# Altium schematic symbol library kmilo17pet-LT_OpAmp_LT2000.SchLib: 1710 symbols (part 64 of 75)
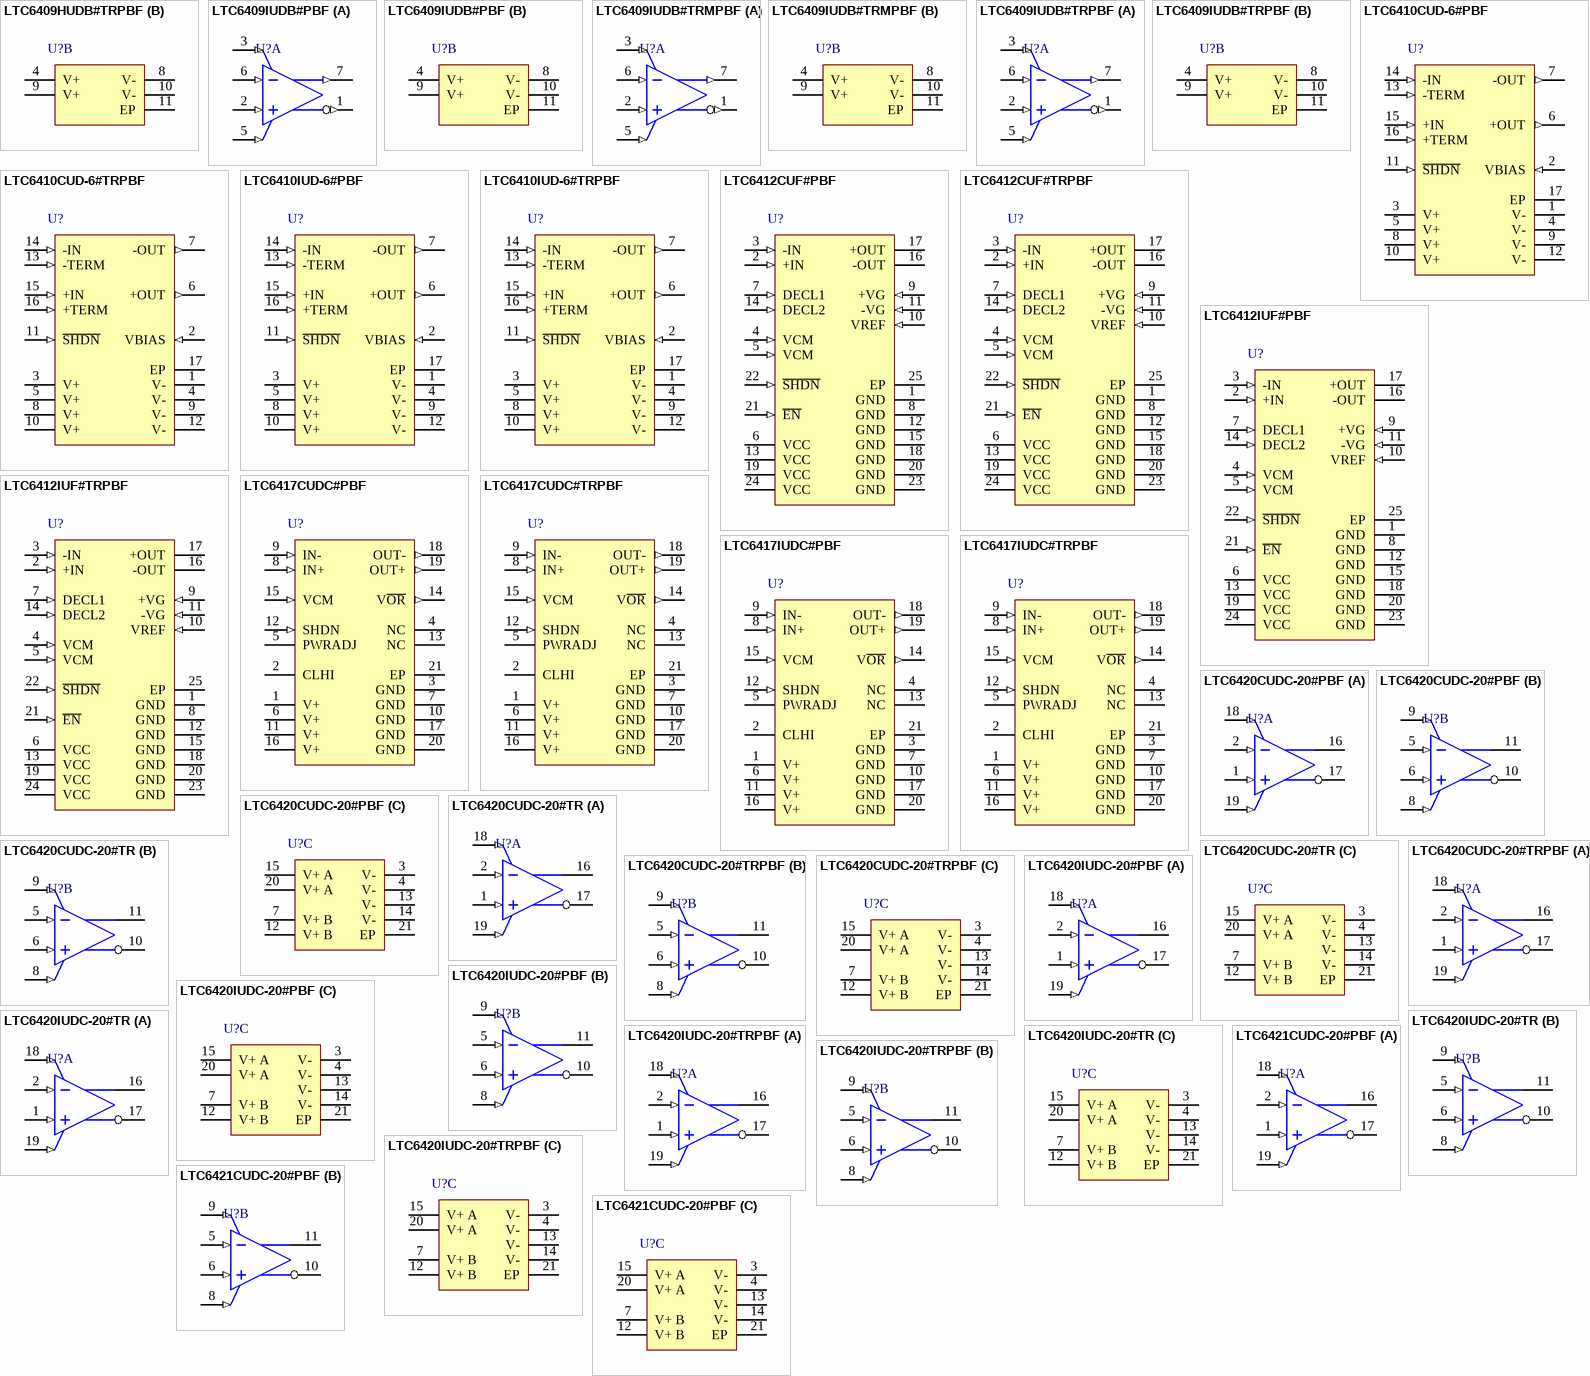
[diagram p143: symbols LTC6409HUDB#TRPBF to LTC6421CUDC-20#PBF]

## LTC6410IUD-6#TRPBF
designator U?
Single Channel, Low Distortion, Low Noise Differential IF Amplifier with Configurable Input Impedance, 1400 MHz Typical GBW, 1500 V/us Typical SR, 2.8 to 5.5 V, 16-Pin QFN (UD-16), Industrial, Pb-Free, Reel; Linear Technology Part Number: LTC6410-6; Manufacturer: Linear Technology; PartNumber: LTC6410IUD-6#TRPBF; Channels (#): 1; GBW (MHz) Typical: 1400; Is (mA) Typical: 104; SR (V/us) Typical: 1500; Vos (mV) Typical: 0.4; Vs Max (V): 5.5; Vs Min (V): 2.8; DatasheetVersion: Rev. A; PackageReference: LT-UD-16; PackageDescription: 16-Lead Plastic QFN, Body 3.00 x 3.00 mm, Pitch 0.5 mm; Supplier 1: Digi-Key; Supplier Part Number 1: LTC6410IUD-6#TRPBF-ND; Supplier 2: Newark; Supplier Part Number 2: 75M4578; Packing: Reel; RoHS: Pb-Free; Type: DIFF; Mounting Technology: Surface Mount; Code_JEDEC: MO-220; ComponentLink1Description: Manufacturer URL; ComponentLink1URL: http://www.linear.com/; ComponentLink2Description: Datasheet; ComponentLink2URL: http://cds.linear.com/docs/en/datasheet/64106fa.pdf; ComponentLink3Description: Package Specification; ComponentLink3URL: http://cds.linear.com/docs/en/packaging/QFN_16_05-08-1691.pdf
footprint LT-UD-16_N (QFN, 16-Leads, Body 3x3mm, Pitch 0.5mm, Thermal Pad 1.45x1.45mm, IPC Medium Density)
footprint LT-UD-16_L (QFN, 16-Leads, Body 3x3mm, Pitch 0.5mm, Thermal Pad 1.45x1.45mm, IPC High Density)
footprint LT-UD-16_M (QFN, 16-Leads, Body 3x3mm, Pitch 0.5mm, Thermal Pad 1.45x1.45mm, IPC Low Density)
pins: 1 V- (power) "Negative Power Supply (Normally Tied to Ground). All 5 pins must be tied to the same voltage. V- maybe tied to a voltage other than ground as long as the voltage between V+ and V- is 2.8V to 5.5V. If the V- pins are not tied (See Datasheet)", 2 VBIAS (in) "This pin sets the input and output common mode voltage by driving the +IN and -IN through a buffer with a high output resistance of 1k. If the part is AC-coupled at the input, the VBIAS will set the VINCM and therefore the (See Datasheet)", 3 V+ (power) "Positive Power Supply. All 4 pins must be tied to the same voltage. Split supplies are possible as long as the voltage between V+ and V- is 2.8V to 5.5V. Bypass capacitors of 680pF and 0.1uF as close to the part as possible (See Datasheet)", 4 V- (power) "Negative Power Supply (Normally Tied to Ground). All 5 pins must be tied to the same voltage. V- maybe tied to a voltage other than ground as long as the voltage between V+ and V- is 2.8V to 5.5V. If the V- pins are not tied (See Datasheet)", 5 V+ (power) "Positive Power Supply. All 4 pins must be tied to the same voltage. Split supplies are possible as long as the voltage between V+ and V- is 2.8V to 5.5V. Bypass capacitors of 680pF and 0.1uF as close to the part as possible (See Datasheet)", 6 +OUT (out) "Output. These pins each have internal series termination resistors forming a differential output resistance.", 7 -OUT (out) "Output. These pins each have internal series termination resistors forming a differential output resistance.", 8 V+ (power) "Positive Power Supply. All 4 pins must be tied to the same voltage. Split supplies are possible as long as the voltage between V+ and V- is 2.8V to 5.5V. Bypass capacitors of 680pF and 0.1uF as close to the part as possible (See Datasheet)", 9 V- (power) "Negative Power Supply (Normally Tied to Ground). All 5 pins must be tied to the same voltage. V- maybe tied to a voltage other than ground as long as the voltage between V+ and V- is 2.8V to 5.5V. If the V- pins are not tied (See Datasheet)", 10 V+ (power) "Positive Power Supply. All 4 pins must be tied to the same voltage. Split supplies are possible as long as the voltage between V+ and V- is 2.8V to 5.5V. Bypass capacitors of 680pF and 0.1uF as close to the part as possible (See Datasheet)", 11 ~{SHDN} (in) "This pin is internally pulled high by a typically 30k resistor to V+. By pulling this pin low the supply current will be reduced to typically 3mA. See DC Electrical Characteristics table for the specifi c logic levels.", 12 V- (power) "Negative Power Supply (Normally Tied to Ground). All 5 pins must be tied to the same voltage. V- maybe tied to a voltage other than ground as long as the voltage between V+ and V- is 2.8V to 5.5V. If the V- pins are not tied (See Datasheet)", 13 -TERM (in) "Negative Input Termination. When tied directly to -IN, it provides an active 50ohm differential termination when +TERM is also tied directly to +IN.", 14 -IN (in) "Negative Input. This pin is normally tied to -TERM, the input termination pin. If AC-coupled, this pin will self bias by VBIAS.", 15 +IN (in) "Positive Input. This pin is normally tied to +TERM, the input termination pin. If AC-coupled, this pin will self bias by VBIAS.", 16 +TERM (in) "Positive Input Termination. When tied directly to +IN, it provides an active 50ohm differential termination when -TERM is also tied directly to -IN.", 17 EP (power) "V-. The Exposed Pad must be soldered to the PCB metal."

## LTC6412CUF#PBF
designator U?
Single Channel, 31 dB Range Analog-Controlled VGA Operational Amplifier, 800 MHz Typical GBW, 3 to 3.6 V, 24-Pin QFN (UF24), Commercial, Pb-Free; Linear Technology Part Number: LTC6412; Manufacturer: Linear Technology; PartNumber: LTC6412CUF#PBF; Channels (#): 1; GBW (MHz) Typical: 800; Is (mA) Typical: 110; Vs Max (V): 3.6; Vs Min (V): 3; DatasheetVersion: Rev. A; PackageVersion: Rev B; PackageReference: LT-UF-24; PackageDescription: 24-Lead Plastic QFN, Body 4 x 4 mm, Pitch 0.5 mm; Supplier 1: Digi-Key; Supplier Part Number 1: LTC6412CUF#PBF-ND; Supplier 2: Farnell; Supplier Part Number 2: 2322429; Supplier 3: Newark; Supplier Part Number 3: 24R6630; RoHS: Pb-Free; Type: DIFF; Mounting Technology: Surface Mount; Code_JEDEC: MO-220; ComponentLink1Description: Manufacturer URL; ComponentLink1URL: http://www.linear.com/; ComponentLink2Description: Datasheet; ComponentLink2URL: http://cds.linear.com/docs/en/datasheet/6412fa.pdf; ComponentLink3Description: Package Specification; ComponentLink3URL: http://cds.linear.com/docs/en/packaging/%28UF24%29%20QFN%2005-08-1697%20Rev%20B.pdf
footprint LT-UF-24_N (QFN, 24-Leads, Body 4x4mm, Pitch 0.5mm, Thermal Pad 2.45x2.45mm, IPC Medium Density)
footprint LT-UF-24_L (QFN, 24-Leads, Body 4x4mm, Pitch 0.5mm, Thermal Pad 2.45x2.45mm, IPC High Density)
footprint LT-UF-24_M (QFN, 24-Leads, Body 4x4mm, Pitch 0.5mm, Thermal Pad 2.45x2.45mm, IPC Low Density)
pins: 1 GND (power) "Ground. Pin is connected to each other internally. For best RF performance, all ground pins should be connected to the printed circuit board ground plane.", 2 +IN (in) "Positive Signal Input Pin. Has an internally generated DC Bias. A 10nF DC blocking capacitor is recommended.", 3 -IN (in) "Negative Signal Input Pin. Has an internally generated DC Bias. A 10nF DC blocking capacitor is recommended.", 4 VCM (in) "Input Common Mode Voltage Pin. The pin is tied together internally and serve as a virtual ground for the differential inputs, +IN and -IN. Capacitive decoupling to ground with 10nF close to the pins is recommended to help (See Datasheet)", 5 VCM (in) "Input Common Mode Voltage Pin. The pin is tied together internally and serve as a virtual ground for the differential inputs, +IN and -IN. Capacitive decoupling to ground with 10nF close to the pins is recommended to help (See Datasheet)", 6 VCC (power) "Positive Power Supply. All four pins must be tied to the same voltage, usually 3.3V. Bypass each pin with 1000pF and 0.1uF capacitors close to the pins.", 7 DECL1 (in) "Decoupling Pin. Serves to reduce internal noise. Bypass to ground with a 0.1uF capacitor close to the pin.", 8 GND (power) "Ground. Pin is connected to each other internally. For best RF performance, all ground pins should be connected to the printed circuit board ground plane.", 9 +VG (in) "Positive Gain Control Pin. Input signal pin used for positive mode gain control. Otherwise, pin is typically connected to VREF for negative mode gain control. Pin is internally pulled to ground with a 10k resistor. In (See Datasheet)", 10 VREF (in) "Internal Bias Voltage Pin. Typically tied to -VG pin for positive gain control or tied to +VG for negative gain control. Determines the midpoint voltage of the gain-vs-VG characteristic. Bypass to ground with 0.1uF capacitor (See Datasheet)", 11 -VG (in) "Negative Gain Control Pin. Input signal pin used for negative mode gain control. Otherwise, pin is typically connected to VREF for positive mode gain control. Pin is internally pulled to ground with a 10k resistor. In (See Datasheet)", 12 GND (power) "Ground. Pin is connected to each other internally. For best RF performance, all ground pins should be connected to the printed circuit board ground plane.", 13 VCC (power) "Positive Power Supply. All four pins must be tied to the same voltage, usually 3.3V. Bypass each pin with 1000pF and 0.1uF capacitors close to the pins.", 14 DECL2 (in) "Decoupling Pin. Serves to reduce internal noise. Bypass to ground with a 1000pF capacitor close to the pin.", 15 GND (power) "Ground. Pin is connected to each other internally. For best RF performance, all ground pins should be connected to the printed circuit board ground plane.", 16 -OUT (hiz) "Negative Amplifi er Output Pin. A transformer with a center tap tied to VCC or a choke inductor is recommended to conduct DC quiescent current to the open-collector output device. For best performance, DC bias voltage to (See Datasheet)", 17 +OUT (hiz) "Positive Amplifi er Output Pin. A transformer with a center tap tied to VCC or a choke inductor is recommended to conduct DC quiescent current to the open-collector output device. For best performance, DC bias voltage to (See Datasheet)", 18 GND (power) "Ground. Pin is connected to each other internally. For best RF performance, all ground pins should be connected to the printed circuit board ground plane.", 19 VCC (power) "Positive Power Supply. All four pins must be tied to the same voltage, usually 3.3V. Bypass each pin with 1000pF and 0.1uF capacitors close to the pins.", 20 GND (power) "Ground. Pin is connected to each other internally. For best RF performance, all ground pins should be connected to the printed circuit board ground plane.", 21 ~{EN} (in) "Output Signal Enable Pin. Pin is internally pulled high with 100k ohm to VCC. Assert pin to a low voltage to enable the output amplifi er signal. Output amplifi er impedance and DC current are not affected by the E\N\ state. (See Datasheet)", 22 ~{SHDN} (in) "Shutdown Pin. Pin is internally pulled high with 100k ohm to VCC. Assert pin to a low voltage to shut down the circuit and greatly reduce the supply current. Proper sequencing of the E\N\ and S\H\D\N\ pins is required to (See Datasheet)", 23 GND (power) "Ground. Pin is connected to each other internally. For best RF performance, all ground pins should be connected to the printed circuit board ground plane.", 24 VCC (power) "Positive Power Supply. All four pins must be tied to the same voltage, usually 3.3V. Bypass each pin with 1000pF and 0.1uF capacitors close to the pins.", 25 EP (power) "Ground. The Exposed Pad should have multiple via holes to an underlying ground plane for low inductance and good thermal dissipation."

## LTC6412CUF#TRPBF
designator U?
Single Channel, 31 dB Range Analog-Controlled VGA Operational Amplifier, 800 MHz Typical GBW, 3 to 3.6 V, 24-Pin QFN (UF24), Commercial, Pb-Free, Reel; Linear Technology Part Number: LTC6412; Manufacturer: Linear Technology; PartNumber: LTC6412CUF#TRPBF; Channels (#): 1; GBW (MHz) Typical: 800; Is (mA) Typical: 110; Vs Max (V): 3.6; Vs Min (V): 3; DatasheetVersion: Rev. A; PackageVersion: Rev B; PackageReference: LT-UF-24; PackageDescription: 24-Lead Plastic QFN, Body 4 x 4 mm, Pitch 0.5 mm; Supplier 1: Digi-Key; Supplier Part Number 1: LTC6412CUF#TRPBF-ND; Supplier 2: Newark; Supplier Part Number 2: 24R6631; Packing: Reel; RoHS: Pb-Free; Type: DIFF; Mounting Technology: Surface Mount; Code_JEDEC: MO-220; ComponentLink1Description: Manufacturer URL; ComponentLink1URL: http://www.linear.com/; ComponentLink2Description: Datasheet; ComponentLink2URL: http://cds.linear.com/docs/en/datasheet/6412fa.pdf; ComponentLink3Description: Package Specification; ComponentLink3URL: http://cds.linear.com/docs/en/packaging/%28UF24%29%20QFN%2005-08-1697%20Rev%20B.pdf
footprint LT-UF-24_N (QFN, 24-Leads, Body 4x4mm, Pitch 0.5mm, Thermal Pad 2.45x2.45mm, IPC Medium Density)
footprint LT-UF-24_L (QFN, 24-Leads, Body 4x4mm, Pitch 0.5mm, Thermal Pad 2.45x2.45mm, IPC High Density)
footprint LT-UF-24_M (QFN, 24-Leads, Body 4x4mm, Pitch 0.5mm, Thermal Pad 2.45x2.45mm, IPC Low Density)
pins: 1 GND (power) "Ground. Pin is connected to each other internally. For best RF performance, all ground pins should be connected to the printed circuit board ground plane.", 2 +IN (in) "Positive Signal Input Pin. Has an internally generated DC Bias. A 10nF DC blocking capacitor is recommended.", 3 -IN (in) "Negative Signal Input Pin. Has an internally generated DC Bias. A 10nF DC blocking capacitor is recommended.", 4 VCM (in) "Input Common Mode Voltage Pin. The pin is tied together internally and serve as a virtual ground for the differential inputs, +IN and -IN. Capacitive decoupling to ground with 10nF close to the pins is recommended to help (See Datasheet)", 5 VCM (in) "Input Common Mode Voltage Pin. The pin is tied together internally and serve as a virtual ground for the differential inputs, +IN and -IN. Capacitive decoupling to ground with 10nF close to the pins is recommended to help (See Datasheet)", 6 VCC (power) "Positive Power Supply. All four pins must be tied to the same voltage, usually 3.3V. Bypass each pin with 1000pF and 0.1uF capacitors close to the pins.", 7 DECL1 (in) "Decoupling Pin. Serves to reduce internal noise. Bypass to ground with a 0.1uF capacitor close to the pin.", 8 GND (power) "Ground. Pin is connected to each other internally. For best RF performance, all ground pins should be connected to the printed circuit board ground plane.", 9 +VG (in) "Positive Gain Control Pin. Input signal pin used for positive mode gain control. Otherwise, pin is typically connected to VREF for negative mode gain control. Pin is internally pulled to ground with a 10k resistor. In (See Datasheet)", 10 VREF (in) "Internal Bias Voltage Pin. Typically tied to -VG pin for positive gain control or tied to +VG for negative gain control. Determines the midpoint voltage of the gain-vs-VG characteristic. Bypass to ground with 0.1uF capacitor (See Datasheet)", 11 -VG (in) "Negative Gain Control Pin. Input signal pin used for negative mode gain control. Otherwise, pin is typically connected to VREF for positive mode gain control. Pin is internally pulled to ground with a 10k resistor. In (See Datasheet)", 12 GND (power) "Ground. Pin is connected to each other internally. For best RF performance, all ground pins should be connected to the printed circuit board ground plane.", 13 VCC (power) "Positive Power Supply. All four pins must be tied to the same voltage, usually 3.3V. Bypass each pin with 1000pF and 0.1uF capacitors close to the pins.", 14 DECL2 (in) "Decoupling Pin. Serves to reduce internal noise. Bypass to ground with a 1000pF capacitor close to the pin.", 15 GND (power) "Ground. Pin is connected to each other internally. For best RF performance, all ground pins should be connected to the printed circuit board ground plane.", 16 -OUT (hiz) "Negative Amplifi er Output Pin. A transformer with a center tap tied to VCC or a choke inductor is recommended to conduct DC quiescent current to the open-collector output device. For best performance, DC bias voltage to (See Datasheet)", 17 +OUT (hiz) "Positive Amplifi er Output Pin. A transformer with a center tap tied to VCC or a choke inductor is recommended to conduct DC quiescent current to the open-collector output device. For best performance, DC bias voltage to (See Datasheet)", 18 GND (power) "Ground. Pin is connected to each other internally. For best RF performance, all ground pins should be connected to the printed circuit board ground plane.", 19 VCC (power) "Positive Power Supply. All four pins must be tied to the same voltage, usually 3.3V. Bypass each pin with 1000pF and 0.1uF capacitors close to the pins.", 20 GND (power) "Ground. Pin is connected to each other internally. For best RF performance, all ground pins should be connected to the printed circuit board ground plane.", 21 ~{EN} (in) "Output Signal Enable Pin. Pin is internally pulled high with 100k ohm to VCC. Assert pin to a low voltage to enable the output amplifi er signal. Output amplifi er impedance and DC current are not affected by the E\N\ state. (See Datasheet)", 22 ~{SHDN} (in) "Shutdown Pin. Pin is internally pulled high with 100k ohm to VCC. Assert pin to a low voltage to shut down the circuit and greatly reduce the supply current. Proper sequencing of the E\N\ and S\H\D\N\ pins is required to (See Datasheet)", 23 GND (power) "Ground. Pin is connected to each other internally. For best RF performance, all ground pins should be connected to the printed circuit board ground plane.", 24 VCC (power) "Positive Power Supply. All four pins must be tied to the same voltage, usually 3.3V. Bypass each pin with 1000pF and 0.1uF capacitors close to the pins.", 25 EP (power) "Ground. The Exposed Pad should have multiple via holes to an underlying ground plane for low inductance and good thermal dissipation."

## LTC6412IUF#PBF
designator U?
Single Channel, 31 dB Range Analog-Controlled VGA Operational Amplifier, 800 MHz Typical GBW, 3 to 3.6 V, 24-Pin QFN (UF24), Industrial, Pb-Free; Linear Technology Part Number: LTC6412; Manufacturer: Linear Technology; PartNumber: LTC6412IUF#PBF; Channels (#): 1; GBW (MHz) Typical: 800; Is (mA) Typical: 110; Vs Max (V): 3.6; Vs Min (V): 3; DatasheetVersion: Rev. A; PackageVersion: Rev B; PackageReference: LT-UF-24; PackageDescription: 24-Lead Plastic QFN, Body 4 x 4 mm, Pitch 0.5 mm; Supplier 1: Digi-Key; Supplier Part Number 1: LTC6412IUF#PBF-ND; Supplier 2: Farnell; Supplier Part Number 2: 2322430; Supplier 3: Newark; Supplier Part Number 3: 24R6632; RoHS: Pb-Free; Type: DIFF; Mounting Technology: Surface Mount; Code_JEDEC: MO-220; ComponentLink1Description: Manufacturer URL; ComponentLink1URL: http://www.linear.com/; ComponentLink2Description: Datasheet; ComponentLink2URL: http://cds.linear.com/docs/en/datasheet/6412fa.pdf; ComponentLink3Description: Package Specification; ComponentLink3URL: http://cds.linear.com/docs/en/packaging/%28UF24%29%20QFN%2005-08-1697%20Rev%20B.pdf
footprint LT-UF-24_N (QFN, 24-Leads, Body 4x4mm, Pitch 0.5mm, Thermal Pad 2.45x2.45mm, IPC Medium Density)
footprint LT-UF-24_L (QFN, 24-Leads, Body 4x4mm, Pitch 0.5mm, Thermal Pad 2.45x2.45mm, IPC High Density)
footprint LT-UF-24_M (QFN, 24-Leads, Body 4x4mm, Pitch 0.5mm, Thermal Pad 2.45x2.45mm, IPC Low Density)
pins: 1 GND (power) "Ground. Pin is connected to each other internally. For best RF performance, all ground pins should be connected to the printed circuit board ground plane.", 2 +IN (in) "Positive Signal Input Pin. Has an internally generated DC Bias. A 10nF DC blocking capacitor is recommended.", 3 -IN (in) "Negative Signal Input Pin. Has an internally generated DC Bias. A 10nF DC blocking capacitor is recommended.", 4 VCM (in) "Input Common Mode Voltage Pin. The pin is tied together internally and serve as a virtual ground for the differential inputs, +IN and -IN. Capacitive decoupling to ground with 10nF close to the pins is recommended to help (See Datasheet)", 5 VCM (in) "Input Common Mode Voltage Pin. The pin is tied together internally and serve as a virtual ground for the differential inputs, +IN and -IN. Capacitive decoupling to ground with 10nF close to the pins is recommended to help (See Datasheet)", 6 VCC (power) "Positive Power Supply. All four pins must be tied to the same voltage, usually 3.3V. Bypass each pin with 1000pF and 0.1uF capacitors close to the pins.", 7 DECL1 (in) "Decoupling Pin. Serves to reduce internal noise. Bypass to ground with a 0.1uF capacitor close to the pin.", 8 GND (power) "Ground. Pin is connected to each other internally. For best RF performance, all ground pins should be connected to the printed circuit board ground plane.", 9 +VG (in) "Positive Gain Control Pin. Input signal pin used for positive mode gain control. Otherwise, pin is typically connected to VREF for negative mode gain control. Pin is internally pulled to ground with a 10k resistor. In (See Datasheet)", 10 VREF (in) "Internal Bias Voltage Pin. Typically tied to -VG pin for positive gain control or tied to +VG for negative gain control. Determines the midpoint voltage of the gain-vs-VG characteristic. Bypass to ground with 0.1uF capacitor (See Datasheet)", 11 -VG (in) "Negative Gain Control Pin. Input signal pin used for negative mode gain control. Otherwise, pin is typically connected to VREF for positive mode gain control. Pin is internally pulled to ground with a 10k resistor. In (See Datasheet)", 12 GND (power) "Ground. Pin is connected to each other internally. For best RF performance, all ground pins should be connected to the printed circuit board ground plane.", 13 VCC (power) "Positive Power Supply. All four pins must be tied to the same voltage, usually 3.3V. Bypass each pin with 1000pF and 0.1uF capacitors close to the pins.", 14 DECL2 (in) "Decoupling Pin. Serves to reduce internal noise. Bypass to ground with a 1000pF capacitor close to the pin.", 15 GND (power) "Ground. Pin is connected to each other internally. For best RF performance, all ground pins should be connected to the printed circuit board ground plane.", 16 -OUT (hiz) "Negative Amplifi er Output Pin. A transformer with a center tap tied to VCC or a choke inductor is recommended to conduct DC quiescent current to the open-collector output device. For best performance, DC bias voltage to (See Datasheet)", 17 +OUT (hiz) "Positive Amplifi er Output Pin. A transformer with a center tap tied to VCC or a choke inductor is recommended to conduct DC quiescent current to the open-collector output device. For best performance, DC bias voltage to (See Datasheet)", 18 GND (power) "Ground. Pin is connected to each other internally. For best RF performance, all ground pins should be connected to the printed circuit board ground plane.", 19 VCC (power) "Positive Power Supply. All four pins must be tied to the same voltage, usually 3.3V. Bypass each pin with 1000pF and 0.1uF capacitors close to the pins.", 20 GND (power) "Ground. Pin is connected to each other internally. For best RF performance, all ground pins should be connected to the printed circuit board ground plane.", 21 ~{EN} (in) "Output Signal Enable Pin. Pin is internally pulled high with 100k ohm to VCC. Assert pin to a low voltage to enable the output amplifi er signal. Output amplifi er impedance and DC current are not affected by the E\N\ state. (See Datasheet)", 22 ~{SHDN} (in) "Shutdown Pin. Pin is internally pulled high with 100k ohm to VCC. Assert pin to a low voltage to shut down the circuit and greatly reduce the supply current. Proper sequencing of the E\N\ and S\H\D\N\ pins is required to (See Datasheet)", 23 GND (power) "Ground. Pin is connected to each other internally. For best RF performance, all ground pins should be connected to the printed circuit board ground plane.", 24 VCC (power) "Positive Power Supply. All four pins must be tied to the same voltage, usually 3.3V. Bypass each pin with 1000pF and 0.1uF capacitors close to the pins.", 25 EP (power) "Ground. The Exposed Pad should have multiple via holes to an underlying ground plane for low inductance and good thermal dissipation."

## LTC6412IUF#TRPBF
designator U?
Single Channel, 31 dB Range Analog-Controlled VGA Operational Amplifier, 800 MHz Typical GBW, 3 to 3.6 V, 24-Pin QFN (UF24), Industrial, Pb-Free, Reel; Linear Technology Part Number: LTC6412; Manufacturer: Linear Technology; PartNumber: LTC6412IUF#TRPBF; Channels (#): 1; GBW (MHz) Typical: 800; Is (mA) Typical: 110; Vs Max (V): 3.6; Vs Min (V): 3; DatasheetVersion: Rev. A; PackageVersion: Rev B; PackageReference: LT-UF-24; PackageDescription: 24-Lead Plastic QFN, Body 4 x 4 mm, Pitch 0.5 mm; Supplier 1: Digi-Key; Supplier Part Number 1: LTC6412IUF#TRPBF-ND; Packing: Reel; RoHS: Pb-Free; Type: DIFF; Mounting Technology: Surface Mount; Code_JEDEC: MO-220; ComponentLink1Description: Manufacturer URL; ComponentLink1URL: http://www.linear.com/; ComponentLink2Description: Datasheet; ComponentLink2URL: http://cds.linear.com/docs/en/datasheet/6412fa.pdf; ComponentLink3Description: Package Specification; ComponentLink3URL: http://cds.linear.com/docs/en/packaging/%28UF24%29%20QFN%2005-08-1697%20Rev%20B.pdf
footprint LT-UF-24_N (QFN, 24-Leads, Body 4x4mm, Pitch 0.5mm, Thermal Pad 2.45x2.45mm, IPC Medium Density)
footprint LT-UF-24_L (QFN, 24-Leads, Body 4x4mm, Pitch 0.5mm, Thermal Pad 2.45x2.45mm, IPC High Density)
footprint LT-UF-24_M (QFN, 24-Leads, Body 4x4mm, Pitch 0.5mm, Thermal Pad 2.45x2.45mm, IPC Low Density)
pins: 1 GND (power) "Ground. Pin is connected to each other internally. For best RF performance, all ground pins should be connected to the printed circuit board ground plane.", 2 +IN (in) "Positive Signal Input Pin. Has an internally generated DC Bias. A 10nF DC blocking capacitor is recommended.", 3 -IN (in) "Negative Signal Input Pin. Has an internally generated DC Bias. A 10nF DC blocking capacitor is recommended.", 4 VCM (in) "Input Common Mode Voltage Pin. The pin is tied together internally and serve as a virtual ground for the differential inputs, +IN and -IN. Capacitive decoupling to ground with 10nF close to the pins is recommended to help (See Datasheet)", 5 VCM (in) "Input Common Mode Voltage Pin. The pin is tied together internally and serve as a virtual ground for the differential inputs, +IN and -IN. Capacitive decoupling to ground with 10nF close to the pins is recommended to help (See Datasheet)", 6 VCC (power) "Positive Power Supply. All four pins must be tied to the same voltage, usually 3.3V. Bypass each pin with 1000pF and 0.1uF capacitors close to the pins.", 7 DECL1 (in) "Decoupling Pin. Serves to reduce internal noise. Bypass to ground with a 0.1uF capacitor close to the pin.", 8 GND (power) "Ground. Pin is connected to each other internally. For best RF performance, all ground pins should be connected to the printed circuit board ground plane.", 9 +VG (in) "Positive Gain Control Pin. Input signal pin used for positive mode gain control. Otherwise, pin is typically connected to VREF for negative mode gain control. Pin is internally pulled to ground with a 10k resistor. In (See Datasheet)", 10 VREF (in) "Internal Bias Voltage Pin. Typically tied to -VG pin for positive gain control or tied to +VG for negative gain control. Determines the midpoint voltage of the gain-vs-VG characteristic. Bypass to ground with 0.1uF capacitor (See Datasheet)", 11 -VG (in) "Negative Gain Control Pin. Input signal pin used for negative mode gain control. Otherwise, pin is typically connected to VREF for positive mode gain control. Pin is internally pulled to ground with a 10k resistor. In (See Datasheet)", 12 GND (power) "Ground. Pin is connected to each other internally. For best RF performance, all ground pins should be connected to the printed circuit board ground plane.", 13 VCC (power) "Positive Power Supply. All four pins must be tied to the same voltage, usually 3.3V. Bypass each pin with 1000pF and 0.1uF capacitors close to the pins.", 14 DECL2 (in) "Decoupling Pin. Serves to reduce internal noise. Bypass to ground with a 1000pF capacitor close to the pin.", 15 GND (power) "Ground. Pin is connected to each other internally. For best RF performance, all ground pins should be connected to the printed circuit board ground plane.", 16 -OUT (hiz) "Negative Amplifi er Output Pin. A transformer with a center tap tied to VCC or a choke inductor is recommended to conduct DC quiescent current to the open-collector output device. For best performance, DC bias voltage to (See Datasheet)", 17 +OUT (hiz) "Positive Amplifi er Output Pin. A transformer with a center tap tied to VCC or a choke inductor is recommended to conduct DC quiescent current to the open-collector output device. For best performance, DC bias voltage to (See Datasheet)", 18 GND (power) "Ground. Pin is connected to each other internally. For best RF performance, all ground pins should be connected to the printed circuit board ground plane.", 19 VCC (power) "Positive Power Supply. All four pins must be tied to the same voltage, usually 3.3V. Bypass each pin with 1000pF and 0.1uF capacitors close to the pins.", 20 GND (power) "Ground. Pin is connected to each other internally. For best RF performance, all ground pins should be connected to the printed circuit board ground plane.", 21 ~{EN} (in) "Output Signal Enable Pin. Pin is internally pulled high with 100k ohm to VCC. Assert pin to a low voltage to enable the output amplifi er signal. Output amplifi er impedance and DC current are not affected by the E\N\ state. (See Datasheet)", 22 ~{SHDN} (in) "Shutdown Pin. Pin is internally pulled high with 100k ohm to VCC. Assert pin to a low voltage to shut down the circuit and greatly reduce the supply current. Proper sequencing of the E\N\ and S\H\D\N\ pins is required to (See Datasheet)", 23 GND (power) "Ground. Pin is connected to each other internally. For best RF performance, all ground pins should be connected to the printed circuit board ground plane.", 24 VCC (power) "Positive Power Supply. All four pins must be tied to the same voltage, usually 3.3V. Bypass each pin with 1000pF and 0.1uF capacitors close to the pins.", 25 EP (power) "Ground. The Exposed Pad should have multiple via holes to an underlying ground plane for low inductance and good thermal dissipation."

## LTC6417CUDC#PBF
designator U?
Single Channel, Low Noise, High Linearity Differential Buffer / 16-Bit ADC Driver with Fast Clamp, 1600 MHz Typical GBW, 10000 V/us Typical SR, 4.75 to 5.25 V, 20-Pin QFN (UDC20), Commercial, Pb-Free; Linear Technology Part Number: LTC6417; Manufacturer: Linear Technology; PartNumber: LTC6417CUDC#PBF; Channels (#): 1; GBW (MHz) Typical: 1600; Is (mA) Typical: 123; SR (V/us) Typical: 10000; Vos (mV) Typical: 0.1; Vs Max (V): 5.25; Vs Min (V): 4.75; PackageVersion: Rev Ø; PackageReference: LT-UDC-20; PackageDescription: 20-Lead Plastic QFN, Body 3 x 4 mm, Pitch 0.5 mm; Supplier 1: Digi-Key; Supplier Part Number 1: LTC6417CUDC#PBF-ND; Supplier 2: Farnell; Supplier Part Number 2: 2322431; Supplier 3: Newark; Supplier Part Number 3: 27W9503; RoHS: Pb-Free; Type: DIFF; Mounting Technology: Surface Mount; ComponentLink1Description: Manufacturer URL; ComponentLink1URL: http://www.linear.com/; ComponentLink2Description: Datasheet; ComponentLink2URL: http://cds.linear.com/docs/en/datasheet/6417f.pdf; ComponentLink3Description: Package Specification; ComponentLink3URL: http://cds.linear.com/docs/en/packaging/QFN_20_05-08-1742.pdf
footprint LT-UDC-20_N (QFN, 20-Leads, Body 4x3mm, Pitch 0.5mm, Thermal Pad 2.5x1.5mm, IPC Medium Density)
footprint LT-UDC-20_L (QFN, 20-Leads, Body 4x3mm, Pitch 0.5mm, Thermal Pad 2.5x1.5mm, IPC High Density)
footprint LT-UDC-20_M (QFN, 20-Leads, Body 4x3mm, Pitch 0.5mm, Thermal Pad 2.5x1.5mm, IPC Low Density)
pins: 1 V+ (power) "Positive Power Supply. Typically 5V.Split supplies are possible as long as the voltage between V+ and GND is 4.75V to 5.25V. Bypass capacitors of 680Pf and 0.1uF as close to the part as possible should be used between the (See Datasheet)", 2 CLHI (power) "High Side Clamp Voltage. The voltage applied to the CLHI pin defines the upper voltage limit of the OUT+ and OUT- pins. This voltage should be set at least 300mV above the upper voltage range of the ADC. On a 5V supply, the (See Datasheet)", 3 GND (power) "Negative Power Supply. Normally tied to ground. All pins and the exposed pad must be tied to the same voltage. GND may be tied to a voltage other than ground as long as the voltage between V+ and GND is 4.75V to 5.25V. If (See Datasheet)", 4 NC "No Connection. These pins are not connected internally.", 5 PWRADJ (power) "Power Adjust Voltage. The voltage applied to this pin scales the bias current internal to the LTC6417. The PWRADJ pin will float to a 1.6V default voltage. PWRADJ has a Thevenin equivalent resistance of approximately 14.5k (See Datasheet)", 6 V+ (power) "Positive Power Supply. Typically 5V.Split supplies are possible as long as the voltage between V+ and GND is 4.75V to 5.25V. Bypass capacitors of 680Pf and 0.1uF as close to the part as possible should be used between the (See Datasheet)", 7 GND (power) "Negative Power Supply. Normally tied to ground. All pins and the exposed pad must be tied to the same voltage. GND may be tied to a voltage other than ground as long as the voltage between V+ and GND is 4.75V to 5.25V. If (See Datasheet)", 8 IN+ (in) "Non-inverting and inverting input pins of the buffer, respectively. These pins are high impedance, approximately 9.5k. If AC-coupled, these pins will self bias to the voltage applied to the VCM pin.", 9 IN- (in) "Non-inverting and inverting input pins of the buffer, respectively. These pins are high impedance, approximately 9.5k. If AC-coupled, these pins will self bias to the voltage applied to the VCM pin.", 10 GND (power) "Negative Power Supply. Normally tied to ground. All pins and the exposed pad must be tied to the same voltage. GND may be tied to a voltage other than ground as long as the voltage between V+ and GND is 4.75V to 5.25V. If (See Datasheet)", 11 V+ (power) "Positive Power Supply. Typically 5V.Split supplies are possible as long as the voltage between V+ and GND is 4.75V to 5.25V. Bypass capacitors of 680Pf and 0.1uF as close to the part as possible should be used between the (See Datasheet)", 12 SHDN (in) "This pin puts the LTC6417 in sleep mode when pulled high. If no voltage is applied to the SHDN pin, it floats down to the same potential as GND.", 13 NC "No Connection. These pins are not connected internally.", 14 V~{OR} (out) "Overrange Output. This pin, by default at 3.4V, will be pulled down to GND, when one or both input signals go beyond the minimum or maximum swing set by the CLHI and VCM pins.", 15 VCM (in) "This pin sets the output common mode voltage seen at OUT+ and OUT- by driving IN+ and IN- through a buffer with a high output resistance of 9.5k. The VCM pin has a Thevenin equivalent resistance of approximately 2.7k and can (See Datasheet)", 16 V+ (power) "Positive Power Supply. Typically 5V.Split supplies are possible as long as the voltage between V+ and GND is 4.75V to 5.25V. Bypass capacitors of 680Pf and 0.1uF as close to the part as possible should be used between the (See Datasheet)", 17 GND (power) "Negative Power Supply. Normally tied to ground. All pins and the exposed pad must be tied to the same voltage. GND may be tied to a voltage other than ground as long as the voltage between V+ and GND is 4.75V to 5.25V. If (See Datasheet)", 18 OUT- (out) "Outputs.", 19 OUT+ (out) "Outputs.", 20 GND (power) "Negative Power Supply. Normally tied to ground. All pins and the exposed pad must be tied to the same voltage. GND may be tied to a voltage other than ground as long as the voltage between V+ and GND is 4.75V to 5.25V. If (See Datasheet)", 21 EP (power) "Negative Power Supply. Normally tied to ground. All pins and the exposed pad must be tied to the same voltage. GND may be tied to a voltage other than ground as long as the voltage between V+ and GND is 4.75V to 5.25V. If (See Datasheet)"

## LTC6417CUDC#TRPBF
designator U?
Single Channel, Low Noise, High Linearity Differential Buffer / 16-Bit ADC Driver with Fast Clamp, 1600 MHz Typical GBW, 10000 V/us Typical SR, 4.75 to 5.25 V, 20-Pin QFN (UDC20), Commercial, Pb-Free, Reel; Linear Technology Part Number: LTC6417; Manufacturer: Linear Technology; PartNumber: LTC6417CUDC#TRPBF; Channels (#): 1; GBW (MHz) Typical: 1600; Is (mA) Typical: 123; SR (V/us) Typical: 10000; Vos (mV) Typical: 0.1; Vs Max (V): 5.25; Vs Min (V): 4.75; PackageVersion: Rev Ø; PackageReference: LT-UDC-20; PackageDescription: 20-Lead Plastic QFN, Body 3 x 4 mm, Pitch 0.5 mm; Supplier 1: Digi-Key; Supplier Part Number 1: LTC6417CUDC#TRPBF-ND; Supplier 2: Newark; Supplier Part Number 2: 27W9504; Packing: Reel; RoHS: Pb-Free; Type: DIFF; Mounting Technology: Surface Mount; ComponentLink1Description: Manufacturer URL; ComponentLink1URL: http://www.linear.com/; ComponentLink2Description: Datasheet; ComponentLink2URL: http://cds.linear.com/docs/en/datasheet/6417f.pdf; ComponentLink3Description: Package Specification; ComponentLink3URL: http://cds.linear.com/docs/en/packaging/QFN_20_05-08-1742.pdf
footprint LT-UDC-20_N (QFN, 20-Leads, Body 4x3mm, Pitch 0.5mm, Thermal Pad 2.5x1.5mm, IPC Medium Density)
footprint LT-UDC-20_L (QFN, 20-Leads, Body 4x3mm, Pitch 0.5mm, Thermal Pad 2.5x1.5mm, IPC High Density)
footprint LT-UDC-20_M (QFN, 20-Leads, Body 4x3mm, Pitch 0.5mm, Thermal Pad 2.5x1.5mm, IPC Low Density)
pins: 1 V+ (power) "Positive Power Supply. Typically 5V.Split supplies are possible as long as the voltage between V+ and GND is 4.75V to 5.25V. Bypass capacitors of 680Pf and 0.1uF as close to the part as possible should be used between the (See Datasheet)", 2 CLHI (power) "High Side Clamp Voltage. The voltage applied to the CLHI pin defines the upper voltage limit of the OUT+ and OUT- pins. This voltage should be set at least 300mV above the upper voltage range of the ADC. On a 5V supply, the (See Datasheet)", 3 GND (power) "Negative Power Supply. Normally tied to ground. All pins and the exposed pad must be tied to the same voltage. GND may be tied to a voltage other than ground as long as the voltage between V+ and GND is 4.75V to 5.25V. If (See Datasheet)", 4 NC "No Connection. These pins are not connected internally.", 5 PWRADJ (power) "Power Adjust Voltage. The voltage applied to this pin scales the bias current internal to the LTC6417. The PWRADJ pin will float to a 1.6V default voltage. PWRADJ has a Thevenin equivalent resistance of approximately 14.5k (See Datasheet)", 6 V+ (power) "Positive Power Supply. Typically 5V.Split supplies are possible as long as the voltage between V+ and GND is 4.75V to 5.25V. Bypass capacitors of 680Pf and 0.1uF as close to the part as possible should be used between the (See Datasheet)", 7 GND (power) "Negative Power Supply. Normally tied to ground. All pins and the exposed pad must be tied to the same voltage. GND may be tied to a voltage other than ground as long as the voltage between V+ and GND is 4.75V to 5.25V. If (See Datasheet)", 8 IN+ (in) "Non-inverting and inverting input pins of the buffer, respectively. These pins are high impedance, approximately 9.5k. If AC-coupled, these pins will self bias to the voltage applied to the VCM pin.", 9 IN- (in) "Non-inverting and inverting input pins of the buffer, respectively. These pins are high impedance, approximately 9.5k. If AC-coupled, these pins will self bias to the voltage applied to the VCM pin.", 10 GND (power) "Negative Power Supply. Normally tied to ground. All pins and the exposed pad must be tied to the same voltage. GND may be tied to a voltage other than ground as long as the voltage between V+ and GND is 4.75V to 5.25V. If (See Datasheet)", 11 V+ (power) "Positive Power Supply. Typically 5V.Split supplies are possible as long as the voltage between V+ and GND is 4.75V to 5.25V. Bypass capacitors of 680Pf and 0.1uF as close to the part as possible should be used between the (See Datasheet)", 12 SHDN (in) "This pin puts the LTC6417 in sleep mode when pulled high. If no voltage is applied to the SHDN pin, it floats down to the same potential as GND.", 13 NC "No Connection. These pins are not connected internally.", 14 V~{OR} (out) "Overrange Output. This pin, by default at 3.4V, will be pulled down to GND, when one or both input signals go beyond the minimum or maximum swing set by the CLHI and VCM pins.", 15 VCM (in) "This pin sets the output common mode voltage seen at OUT+ and OUT- by driving IN+ and IN- through a buffer with a high output resistance of 9.5k. The VCM pin has a Thevenin equivalent resistance of approximately 2.7k and can (See Datasheet)", 16 V+ (power) "Positive Power Supply. Typically 5V.Split supplies are possible as long as the voltage between V+ and GND is 4.75V to 5.25V. Bypass capacitors of 680Pf and 0.1uF as close to the part as possible should be used between the (See Datasheet)", 17 GND (power) "Negative Power Supply. Normally tied to ground. All pins and the exposed pad must be tied to the same voltage. GND may be tied to a voltage other than ground as long as the voltage between V+ and GND is 4.75V to 5.25V. If (See Datasheet)", 18 OUT- (out) "Outputs.", 19 OUT+ (out) "Outputs.", 20 GND (power) "Negative Power Supply. Normally tied to ground. All pins and the exposed pad must be tied to the same voltage. GND may be tied to a voltage other than ground as long as the voltage between V+ and GND is 4.75V to 5.25V. If (See Datasheet)", 21 EP (power) "Negative Power Supply. Normally tied to ground. All pins and the exposed pad must be tied to the same voltage. GND may be tied to a voltage other than ground as long as the voltage between V+ and GND is 4.75V to 5.25V. If (See Datasheet)"

## LTC6417IUDC#PBF
designator U?
Single Channel, Low Noise, High Linearity Differential Buffer / 16-Bit ADC Driver with Fast Clamp, 1600 MHz Typical GBW, 10000 V/us Typical SR, 4.75 to 5.25 V, 20-Pin QFN (UDC20), Industrial, Pb-Free; Linear Technology Part Number: LTC6417; Manufacturer: Linear Technology; PartNumber: LTC6417IUDC#PBF; Channels (#): 1; GBW (MHz) Typical: 1600; Is (mA) Typical: 123; SR (V/us) Typical: 10000; Vos (mV) Typical: 0.1; Vs Max (V): 5.25; Vs Min (V): 4.75; PackageVersion: Rev Ø; PackageReference: LT-UDC-20; PackageDescription: 20-Lead Plastic QFN, Body 3 x 4 mm, Pitch 0.5 mm; Supplier 1: Digi-Key; Supplier Part Number 1: LTC6417IUDC#PBF-ND; Supplier 2: Farnell; Supplier Part Number 2: 2322433; Supplier 3: Newark; Supplier Part Number 3: 27W9505; RoHS: Pb-Free; Type: DIFF; Mounting Technology: Surface Mount; ComponentLink1Description: Manufacturer URL; ComponentLink1URL: http://www.linear.com/; ComponentLink2Description: Datasheet; ComponentLink2URL: http://cds.linear.com/docs/en/datasheet/6417f.pdf; ComponentLink3Description: Package Specification; ComponentLink3URL: http://cds.linear.com/docs/en/packaging/QFN_20_05-08-1742.pdf
footprint LT-UDC-20_N (QFN, 20-Leads, Body 4x3mm, Pitch 0.5mm, Thermal Pad 2.5x1.5mm, IPC Medium Density)
footprint LT-UDC-20_L (QFN, 20-Leads, Body 4x3mm, Pitch 0.5mm, Thermal Pad 2.5x1.5mm, IPC High Density)
footprint LT-UDC-20_M (QFN, 20-Leads, Body 4x3mm, Pitch 0.5mm, Thermal Pad 2.5x1.5mm, IPC Low Density)
pins: 1 V+ (power) "Positive Power Supply. Typically 5V.Split supplies are possible as long as the voltage between V+ and GND is 4.75V to 5.25V. Bypass capacitors of 680Pf and 0.1uF as close to the part as possible should be used between the (See Datasheet)", 2 CLHI (power) "High Side Clamp Voltage. The voltage applied to the CLHI pin defines the upper voltage limit of the OUT+ and OUT- pins. This voltage should be set at least 300mV above the upper voltage range of the ADC. On a 5V supply, the (See Datasheet)", 3 GND (power) "Negative Power Supply. Normally tied to ground. All pins and the exposed pad must be tied to the same voltage. GND may be tied to a voltage other than ground as long as the voltage between V+ and GND is 4.75V to 5.25V. If (See Datasheet)", 4 NC "No Connection. These pins are not connected internally.", 5 PWRADJ (power) "Power Adjust Voltage. The voltage applied to this pin scales the bias current internal to the LTC6417. The PWRADJ pin will float to a 1.6V default voltage. PWRADJ has a Thevenin equivalent resistance of approximately 14.5k (See Datasheet)", 6 V+ (power) "Positive Power Supply. Typically 5V.Split supplies are possible as long as the voltage between V+ and GND is 4.75V to 5.25V. Bypass capacitors of 680Pf and 0.1uF as close to the part as possible should be used between the (See Datasheet)", 7 GND (power) "Negative Power Supply. Normally tied to ground. All pins and the exposed pad must be tied to the same voltage. GND may be tied to a voltage other than ground as long as the voltage between V+ and GND is 4.75V to 5.25V. If (See Datasheet)", 8 IN+ (in) "Non-inverting and inverting input pins of the buffer, respectively. These pins are high impedance, approximately 9.5k. If AC-coupled, these pins will self bias to the voltage applied to the VCM pin.", 9 IN- (in) "Non-inverting and inverting input pins of the buffer, respectively. These pins are high impedance, approximately 9.5k. If AC-coupled, these pins will self bias to the voltage applied to the VCM pin.", 10 GND (power) "Negative Power Supply. Normally tied to ground. All pins and the exposed pad must be tied to the same voltage. GND may be tied to a voltage other than ground as long as the voltage between V+ and GND is 4.75V to 5.25V. If (See Datasheet)", 11 V+ (power) "Positive Power Supply. Typically 5V.Split supplies are possible as long as the voltage between V+ and GND is 4.75V to 5.25V. Bypass capacitors of 680Pf and 0.1uF as close to the part as possible should be used between the (See Datasheet)", 12 SHDN (in) "This pin puts the LTC6417 in sleep mode when pulled high. If no voltage is applied to the SHDN pin, it floats down to the same potential as GND.", 13 NC "No Connection. These pins are not connected internally.", 14 V~{OR} (out) "Overrange Output. This pin, by default at 3.4V, will be pulled down to GND, when one or both input signals go beyond the minimum or maximum swing set by the CLHI and VCM pins.", 15 VCM (in) "This pin sets the output common mode voltage seen at OUT+ and OUT- by driving IN+ and IN- through a buffer with a high output resistance of 9.5k. The VCM pin has a Thevenin equivalent resistance of approximately 2.7k and can (See Datasheet)", 16 V+ (power) "Positive Power Supply. Typically 5V.Split supplies are possible as long as the voltage between V+ and GND is 4.75V to 5.25V. Bypass capacitors of 680Pf and 0.1uF as close to the part as possible should be used between the (See Datasheet)", 17 GND (power) "Negative Power Supply. Normally tied to ground. All pins and the exposed pad must be tied to the same voltage. GND may be tied to a voltage other than ground as long as the voltage between V+ and GND is 4.75V to 5.25V. If (See Datasheet)", 18 OUT- (out) "Outputs.", 19 OUT+ (out) "Outputs.", 20 GND (power) "Negative Power Supply. Normally tied to ground. All pins and the exposed pad must be tied to the same voltage. GND may be tied to a voltage other than ground as long as the voltage between V+ and GND is 4.75V to 5.25V. If (See Datasheet)", 21 EP (power) "Negative Power Supply. Normally tied to ground. All pins and the exposed pad must be tied to the same voltage. GND may be tied to a voltage other than ground as long as the voltage between V+ and GND is 4.75V to 5.25V. If (See Datasheet)"